# Altium integrated library CSD17581Q3A.IntLib: 1 symbol
Pins are listed as number, name and electrical type; pins without a type are passive.

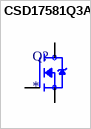
[diagram p0: symbol CSD17581Q3A]

## CSD17581Q3A
designator Q?
30-V, N channel NexFETâ„¢ power MOSFET, single SON 3 mm x 3 mm, 4.7 mOhm; MF: Texas Instruments; MP: CSD17581Q3A; SnapEDA_Link: https://www.snapeda.com/parts/CSD17581Q3A/Texas+Instruments/view-part/?ref=snap; Package: VSONP-8 Texas Instruments; Value: *; Check_prices: https://www.snapeda.com/parts/CSD17581Q3A/Texas+Instruments/view-part/?ref=eda
footprint TRANS_CSD17581Q3A
pins: 1 S, 2 S, 3 S, 4 G, 5_9 D